# EAGLE library part CJMCU-1293 (library FansElectronics-Modul)
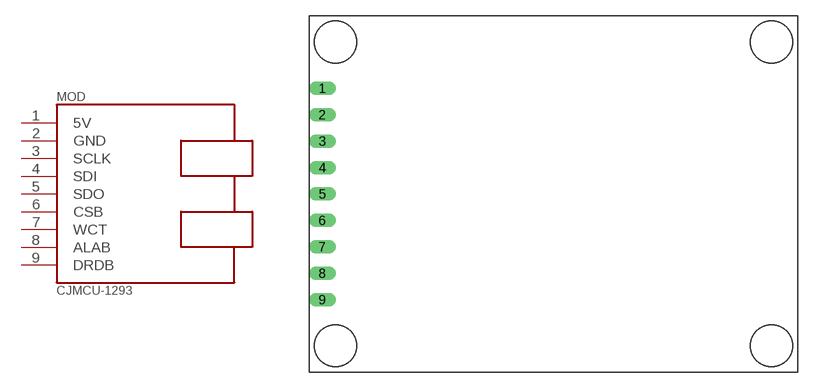
[diagram p42: symbol with the pads of CJMCU-1293; footprint CJMCU-1293]

Designator prefix MOD

## CJMCU-1293  [CJMCU-1293]
1  5V  pwr
2  GND  pwr
3  SCLK  in
4  SDI  in
5  SDO  in
6  CSB  in
7  WCT  in
8  ALAB  in
9  DRDB  in

## Footprint CJMCU-1293 (pad centres in mm)
drill 0.8 long: 1 0,10.16; 2 0,7.62; 3 0,5.08; 4 0,2.54; 5 0,0; 6 0,-2.54; 7 0,-5.08; 8 0,-7.62; 9 0,-10.16